# EAGLE library part CD4043 (library Skoba)
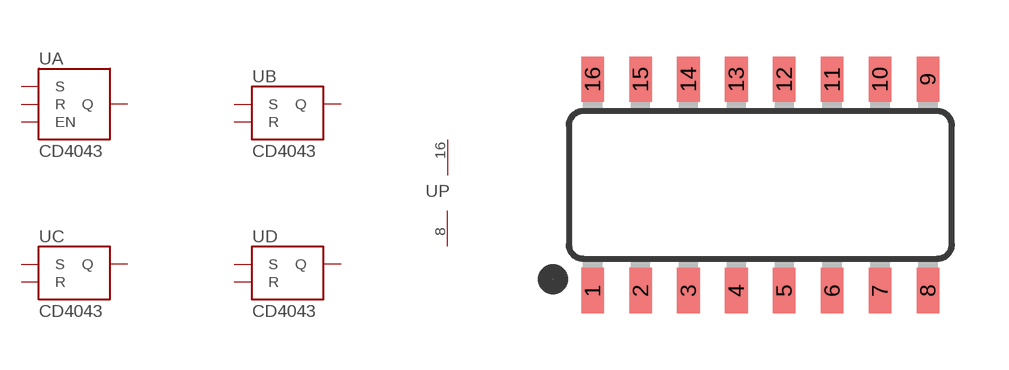
[diagram p49: symbol with the pads of SO16; footprint SO16]

Designator prefix U; gates A=SR-LATCH-EN B=SR-LATCH C=SR-LATCH D=SR-LATCH P=PWRN

## CD4043  [SO16]
1  D:Q  pas
2  A:Q  pas
3  A:R  pas
4  A:S  pas
5  A:EN  pas
6  B:S  pas
7  B:R  pas
8  P:GND  pwr
9  B:Q  pas
10  C:Q  pas
11  C:R  pas
12  C:S  pas
14  D:S  pas
15  D:R  pas
16  P:VCC  pwr

## Footprint SO16 (pad centres in mm)
Small Outline package 150 mil
smd 0.6 x 1.2: 1 -4.445,-2.8; 2 -3.175,-2.8; 3 -1.905,-2.8; 4 -0.635,-2.8; 5 0.635,-2.8; 6 1.905,-2.8; 7 3.175,-2.8; 8 4.445,-2.8; 9 4.445,2.8; 10 3.175,2.8; 11 1.905,2.8; 12 0.635,2.8; 13 -0.635,2.8; 14 -1.905,2.8; 15 -3.175,2.8; 16 -4.445,2.8